# EAGLE library part IPG20N04S4L-11 (library untitled)
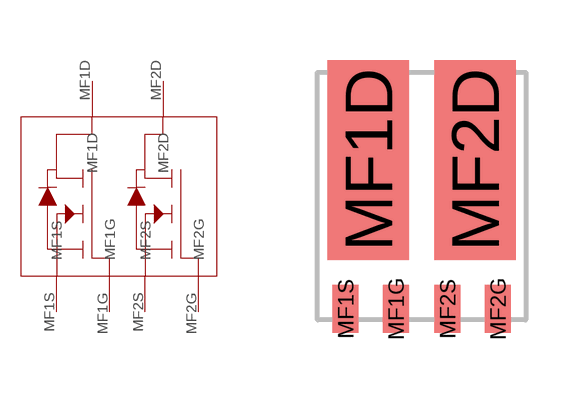
[diagram p5: symbol with the pads of SUPERSO8; footprint SUPERSO8]

Designator prefix -

## IPG20N04S4L-11  [SUPERSO8]
MF1D  MF1D
MF1G  MF1G
MF1S  MF1S
MF2D  MF2D
MF2G  MF2G
MF2S  MF2S

## Footprint SUPERSO8 (pad centres in mm)
smd 2.035 x 5: MF1D -1.335,0.91; MF2D 1.335,0.91
smd 0.65 x 1.2: MF1G -0.645,-2.825; MF1S -1.905,-2.825; MF2G 1.905,-2.825; MF2S 0.645,-2.825